# Altium schematic symbol library RTL8812AU.SchLib: 2 symbols
Pins are listed as number, name and electrical type; pins without a type are passive.

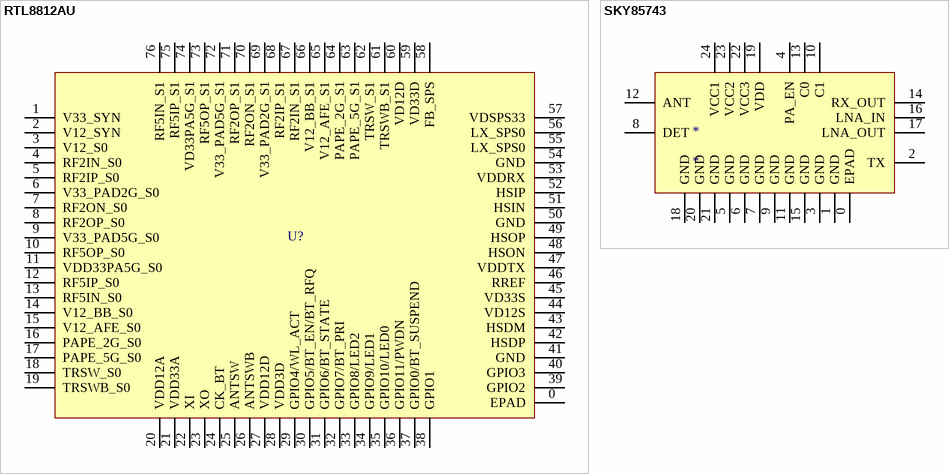
[diagram p0: symbols RTL8812AU to SKY85743]

## RTL8812AU
designator U?  (value not drawn)
footprint RTL8812AU
pins: 0 EPAD, 1 V33_SYN, 2 V12_SYN, 3 V12_S0, 4 RF2IN_S0, 5 RF2IP_S0, 6 V33_PAD2G_S0, 7 RF2ON_S0, 8 RF2OP_S0, 9 V33_PAD5G_S0, 10 RF5OP_S0, 11 VDD33PA5G_S0, 12 RF5IP_S0, 13 RF5IN_S0, 14 V12_BB_S0, 15 V12_AFE_S0, 16 PAPE_2G_S0, 17 PAPE_5G_S0, 18 TRSW_S0, 19 TRSWB_S0, 20 VDD12A, 21 VDD33A, 22 XI, 23 XO, 24 CK_BT, 25 ANTSW, 26 ANTSWB, 27 VDD12D, 28 VDD3D, 29 GPIO4/WL_ACT, 30 GPIO5/BT_EN/BT_RFQ, 31 GPIO6/BT_STATE, 32 GPIO7/BT_PRI, 33 GPIO8/LED2, 34 GPIO9/LED1, 35 GPIO10/LED0, 36 GPIO11/PWDN, 37 GPIO0/BT_SUSPEND, 38 GPIO1, 39 GPIO2, 40 GPIO3, 41 GND, 42 HSDP, 43 HSDM, 44 VD12S, 45 VD33S, 46 RREF, 47 VDDTX, 48 HSON, 49 HSOP, 50 GND, 51 HSIN, 52 HSIP, 53 VDDRX, 54 GND, 55 LX_SPS0, 56 LX_SPS0, 57 VDSPS33, 58 FB_SPS, 59 VD33D, 60 VD12D, 61 TRSWB_S1, 62 TRSW_S1, 63 PAPE_5G_S1, 64 PAPE_2G_S1, 65 V12_AFE_S1, 66 V12_BB_S1, 67 RF2IN_S1, 68 RF2IP_S1, 69 V33_PAD2G_S1, 70 RF2ON_S1, 71 RF2OP_S1, 72 V33_PAD5G_S1, 73 RF5OP_S1, 74 VD33PA5G_S1, 75 RF5IP_S1, 76 RF5IN_S1

## SKY85743
designator *
footprint SKY85743
pins: 0 EPAD, 1 GND, 2 TX, 3 GND, 4 PA_EN, 5 GND, 6 GND, 7 GND, 8 DET, 9 GND, 10 C1, 11 GND, 12 ANT, 13 C0, 14 RX_OUT, 15 GND, 16 LNA_IN, 17 LNA_OUT, 18 GND, 19 VDD, 20 GND, 21 GND, 22 VCC3, 23 VCC2, 24 VCC1